# Altium schematic symbol library Header 2X20.Schlib: 1 symbol
Pins are listed as number, name and electrical type; pins without a type are passive.

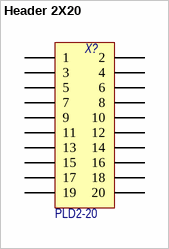
[diagram p0: symbol Header 2X20]

## Header 2X20
designator X?  Наименование: PLD2-20  (hidden comment: Header 2X20)
Header, 20-Pin, Dual row; Потребление, Вт: 0,0; Назначение: Header, 20-Pin, Dual row
footprint PLD2-20
footprint PLD2-20R
footprint SD87340-20
footprint PBD2-20s
footprint PBD-20
footprint DS1013-20R (header  20 pin right angle 2.54 pitch)
footprint smd 2mm - 20
pins: 1, 2, 3, 4, 5, 6, 7, 8, 9, 10, 11, 12, 13, 14, 15, 16, 17, 18, 19, 20